# Altium footprint library Skayboard.PcbLib: 5 footprints
Each footprint in its own frame and in the unit in brackets; x right, y up, seen from the top. Pads: shape width x height; smd on the part's side, far side on the other; paste and mask are expansions set on the pad; w line width, h text height; cw(c..) or ccw(c..) is an arc to the next point about the centre after c.
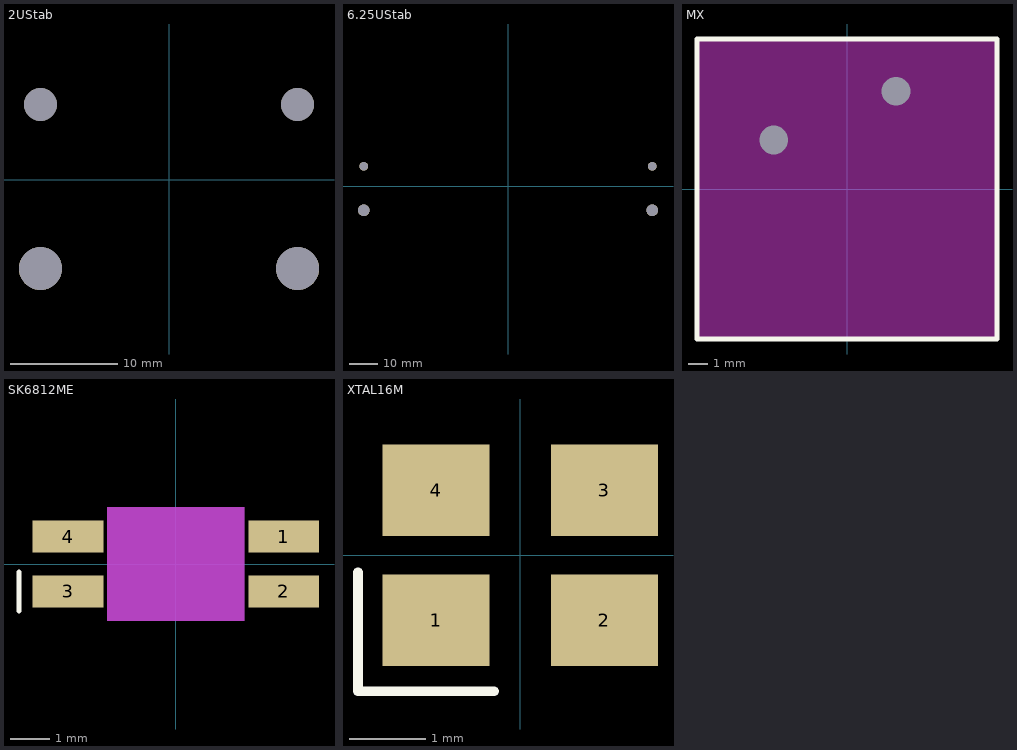
[diagram p0: the footprints below, top view; thin cyan lines are the x and y axes]

## 2UStab [mil] "A 2U stabilizer"
pads (4):
  round 157 hole 157 unplated: ""(-470,-325) ""(470,-325)
  round 120 hole 120 unplated: ""(-470,275) ""(470,275)

## 6.25UStab [mil] "A 6.25U stabilizer"
pads (4):
  round 157 hole 157 unplated: ""(-1968.75,-325) ""(1968.75,-325)
  round 120 hole 120 unplated: ""(-1968.75,275) ""(1968.75,275)

## MX [mil] "Cherry MX Footprint"
pads (2):
  round 0 / inner round 90 / far side round 90 hole 59: 1(-150,100) 2(100,200)
Top Layer keep-out:
  rectangle: -307.09,-307.09 307.09,307.09
Top Overlay:
  lines w10: -307.09,-307.09 307.09,-307.09 307.09,307.09 -307.09,307.09 -307.09,-307.09
Keep-Out Layer:
  board cut-out: 200,33.5 203.3,33.5 209.77,32.21 215.87,29.69 221.35,26.02 226.02,21.36 229.69,15.87 232.21,9.77 233.5,3.3 233.5,0 233.5,-3.3 232.21,-9.77 229.69,-15.87 226.02,-21.36 221.35,-26.02 215.87,-29.69 209.77,-32.21 203.3,-33.5 200,-33.5 196.7,-33.5 190.23,-32.21 184.13,-29.69 178.64,-26.02 173.98,-21.36 170.31,-15.87 167.79,-9.77 166.5,-3.3 166.5,0 166.5,3.3 167.79,9.77 170.31,15.87 173.98,21.36 178.64,26.02 184.13,29.69 190.23,32.21 196.7,33.5
  board cut-out: -200,33.5 -196.7,33.5 -190.23,32.21 -184.13,29.69 -178.64,26.02 -173.98,21.36 -170.31,15.87 -167.79,9.77 -166.5,3.3 -166.5,0 -166.5,-3.3 -167.79,-9.77 -170.31,-15.87 -173.98,-21.36 -178.64,-26.02 -184.13,-29.69 -190.23,-32.21 -196.7,-33.5 -200,-33.5 -203.3,-33.5 -209.77,-32.21 -215.87,-29.69 -221.35,-26.02 -226.02,-21.36 -229.69,-15.87 -232.21,-9.77 -233.5,-3.3 -233.5,0 -233.5,3.3 -232.21,9.77 -229.69,15.87 -226.02,21.36 -221.35,26.02 -215.87,29.69 -209.77,32.21 -203.3,33.5
  board cut-out: 0,78.5 7.73,78.5 22.9,75.48 37.18,69.57 50.04,60.97 60.97,50.04 69.57,37.18 75.48,22.9 78.5,7.73 78.5,0 78.5,-7.73 75.48,-22.9 69.57,-37.18 60.97,-50.04 50.04,-60.97 37.18,-69.57 22.9,-75.48 7.73,-78.5 0,-78.5 -7.73,-78.5 -22.9,-75.48 -37.18,-69.57 -50.04,-60.97 -60.97,-50.04 -69.57,-37.18 -75.48,-22.9 -78.5,-7.73 -78.5,0 -78.5,7.73 -75.48,22.9 -69.57,37.18 -60.97,50.04 -50.04,60.97 -37.18,69.57 -22.9,75.48 -7.73,78.5

## SK6812ME [mm] "SK6812 Mini-E footprint"
pads (4):
  rect 1.8x0.82 smd: 1(2.75,0.7) 2(2.75,-0.7) 3(-2.75,-0.7) 4(-2.75,0.7)
Top Layer keep-out:
  rectangle: -1.75,-1.45 1.75,1.45
Top Overlay:
  lines w0.127: -4,-1.2 -4,-0.2
Bottom Overlay:
  lines w0.127: -4,-1.2 -4,-0.2
Mechanical 1:
  pour cut-out: -1.75,1.45 -1.75,-1.45 1.75,-1.45 1.75,1.45
3D body "LED v2.step": height 0.13, standoff -0.97, extent -3.09,-1.4 3.1,1.4

## XTAL16M [mm] "A 16Mhz crystal resonator footprint, JLCPCB #C13738"
height 0.7
pads (4):
  rect 1.4x1.2 smd: 1(-1.1,-0.85) 2(1.1,-0.85) 3(1.1,0.85) 4(-1.1,0.85)
Top Overlay:
  lines w0.127: -2.121,-0.223 -2.121,-1.778 -0.341,-1.778